# Altium footprint library PCB11.PcbLib: 20 footprints (part 2 of 2)
Each footprint in its own frame and in the unit in brackets; x right, y up, seen from the top. Pads: shape width x height; smd on the part's side, far side on the other; paste and mask are expansions set on the pad; w line width, h text height; cw(c..) or ccw(c..) is an arc to the next point about the centre after c.
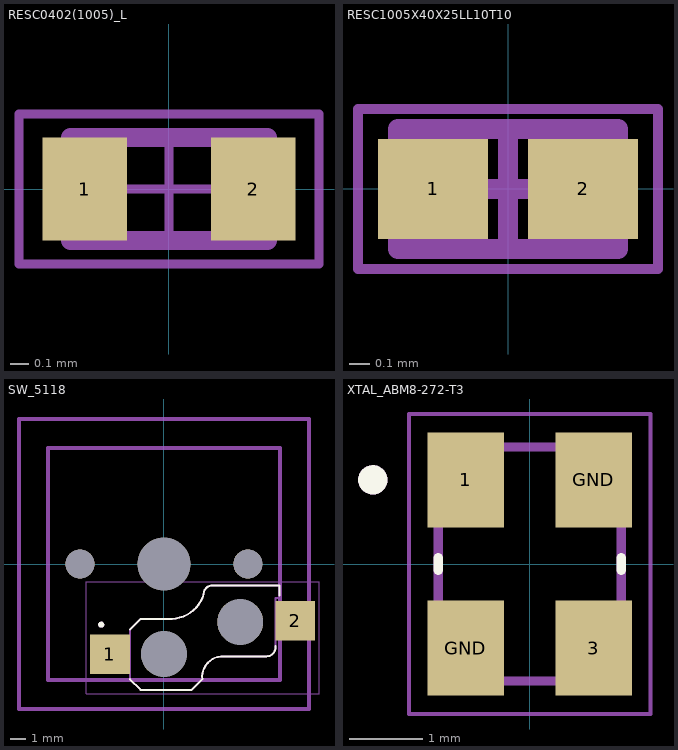
[diagram p1: the footprints below, top view; thin cyan lines are the x and y axes]

## RESC0402(1005)_L [mm] "Chip Resistor, Body 1.0x0.5mm, IPC High Density"
height 0.4
pads (2):
  rect 0.45x0.55 smd: 1(-0.45,0) 2(0.45,0)
Mechanical 13:
  lines w0.1: -0.525,-0.275 -0.525,0.275 0.525,0.275 0.525,-0.275 -0.525,-0.275
Mechanical 15:
  lines w0.05: -0.275,0 0.275,0 ; 0,-0.275 0,0.275 ; -0.8,-0.4 -0.8,0.4 0.8,0.4 0.8,-0.4 -0.8,-0.4
3D body: height 0.4, standoff 0, extent -0.525,-0.275 -0.3,0.275
3D body: height 0.4, standoff 0, extent -0.3,-0.275 0.3,0.275
3D body: height 0.4, standoff 0, extent 0.3,-0.275 0.525,0.275

## RESC1005X40X25LL10T10 [mm] "Chip Resistor, 2-Leads, Body 1.00x0.50mm, IPC High Density"
height 0.4
pads (2):
  rect 0.55x0.5 smd: 1(-0.375,0) 2(0.375,0)
Mechanical 13:
  lines w0.1: -0.55,-0.3 0.55,-0.3 0.55,0.3 -0.55,0.3 -0.55,-0.3
Mechanical 15:
  lines w0.05: -0.75,-0.4 0.75,-0.4 0.75,0.4 -0.75,0.4 -0.75,-0.4
  lines w0.1: -0.3,0 0.3,0 ; 0,-0.3 0,0.3
3D body: height 0.4, standoff 0, extent 0.3,-0.3 0.55,0.3
3D body: height 0.4, standoff 0, extent -0.55,-0.3 -0.3,0.3
3D body: height 0.4, standoff 0, extent -0.3,-0.3 0.3,0.3

## SW_5118 [mm]
height 1.85
pads (7):
  rect 2.6x2.6 smd: 1(-3.535,-5.926) 2(8.615,-3.726)
  round 1.902 hole 1.902 unplated: ""(-5.5,0) ""(5.5,0)
  round 3 hole 3 unplated: ""(0,-5.9) ""(5,-3.8)
  round 3.452 hole 3.452 unplated: ""(0,0)
Top Overlay:
  circle w0.2: c-4.11,-3.976 r0.1
  lines w0.127: -2.235,-7.551 -1.535,-8.251 1.815,-8.251 2.515,-7.551 ; -2.235,-4.301 -1.535,-3.601 0.515,-3.601 ; 0.531,-3.6 ccw(c0.41,-1.304) 2.61,-1.976 ; 2.515,-7.554 cw(c3.875,-7.411) 3.732,-6.051 ; 2.605,-1.986 cw(c3.18,-1.976) 3.17,-1.401 ; 3.165,-1.401 7.565,-1.401 7.565,-2.076 ; 3.735,-6.051 6.735,-6.051 ccw(c6.735,-5.471) 7.315,-5.471 ; 7.315,-5.476 7.315,-5.376
Mechanical 1:
  lines w0.254: -7.6,-7.6 7.6,-7.6 7.6,7.6 -7.6,7.6 -7.6,-7.6
Mechanical 13:
  circle w0.2: c-4.11,-3.976 r0.1
  lines w0.127: 0.515,-3.601 -1.535,-3.601 -2.235,-4.301 -2.235,-7.551 -1.535,-8.251 1.815,-8.251 2.515,-7.551 ; 0.531,-3.6 ccw(c0.41,-1.304) 2.61,-1.976 ; 2.515,-7.554 cw(c3.875,-7.411) 3.732,-6.051 ; 2.605,-1.986 cw(c3.18,-1.976) 3.17,-1.401 ; 3.165,-1.401 7.565,-1.401 7.565,-2.226 7.315,-2.226 7.315,-5.471 cw(c6.735,-5.471) 6.735,-6.051 3.735,-6.051
  lines w0.254: -9.5,-9.5 9.5,-9.5 9.5,9.5 -9.5,9.5 -9.5,-9.5
Mechanical 15:
  lines w0.05: -5.085,-8.501 10.165,-8.501 10.165,-1.151 -5.085,-1.151 -5.085,-8.501
3D body "step_temp.STEP": height 1.85, standoff -1.2, extent -4.035,-8.251 9.115,-1.401

## XTAL_ABM8-272-T3 [mm]
height 0.8
pads (4):
  rect 1.05x1.3 smd: 1(-0.875,1.15) 3(0.875,-1.15) GND(-0.875,-1.15) GND(0.875,1.15)
Top Overlay:
  circle w0.2: c-2.145,1.15 r0.1
  lines w0.127: -1.25,-0.085 -1.25,0.085 ; 1.25,-0.085 1.25,0.085
Mechanical 13:
  circle w0.2: c-2.145,1.15 r0.1
  lines w0.127: -1.25,-1.6 -1.25,1.6 1.25,1.6 1.25,-1.6 -1.25,-1.6
Mechanical 15:
  lines w0.05: -1.65,-2.05 -1.65,2.05 1.65,2.05 1.65,-2.05 -1.65,-2.05
3D body "step_temp.STEP": height 0.7, standoff 0, extent -1.25,-1.6 1.25,1.6